# EAGLE library part 555163-1 (library con-amp2)
AMP connector
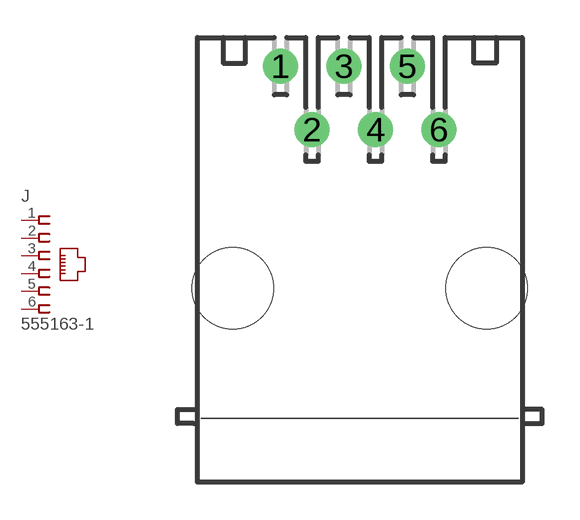
[diagram p26: symbol with the pads of 555163-1; footprint 555163-1]

Designator prefix J

## 555163-1  [555163-1]
1  1  pas
2  2  pas
3  3  pas
4  4  pas
5  5  pas
6  6  pas

## Footprint 555163-1 (pad centres in mm)
Modular Jack with Panel Stops
drill 0.889 round: 1 -3.175,7.747; 2 -1.905,5.207; 3 -0.635,7.747; 4 0.635,5.207; 5 1.905,7.747; 6 3.175,5.207
hole 3.251 at -5.08,-1.143
hole 3.251 at 5.08,-1.143